# EAGLE library part IRF7416 (library IRF7416)
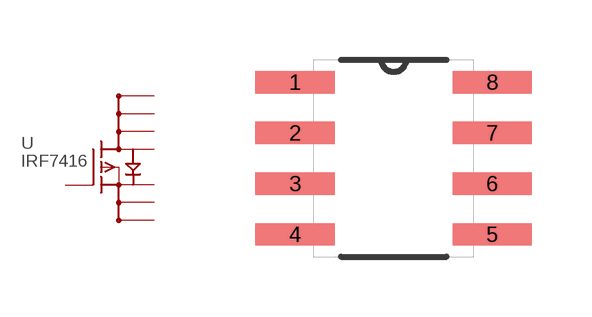
[diagram p0: symbol with the pads of SOIC127P600X172-8N; footprint SOIC127P600X172-8N]

Designator prefix -

## IRF7416  [SOIC127P600X172-8N]
1  S  pas
2  S1  pas
3  S2  pas
4  G  pas
5  D3  pas
6  D2  pas
7  D1  pas
8  D  pas

## Footprint SOIC127P600X172-8N (pad centres in mm)
smd 1.981 x 0.559: 1 -2.464,1.905; 2 -2.464,0.635; 3 -2.464,-0.635; 4 -2.464,-1.905; 5 2.464,-1.905; 6 2.464,-0.635; 7 2.464,0.635; 8 2.464,1.905